# Altium schematic symbol library Mini-Circuits.SchLib: 11 symbols
Pins are listed as number, name and electrical type; pins without a type are passive.

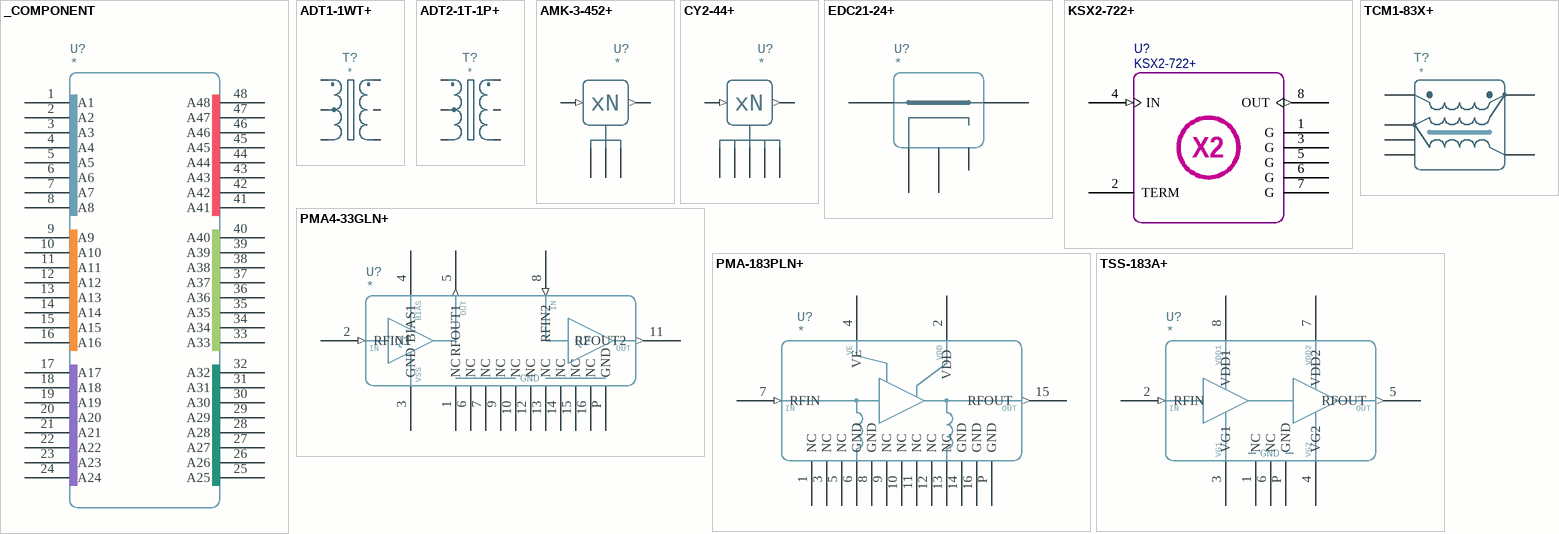
[diagram p0: symbols _COMPONENT to TSS-183A+]

## _COMPONENT
designator U?
pins: 1 A1, 2 A2, 3 A3, 4 A4, 5 A5, 6 A6, 7 A7, 8 A8, 9 A9, 10 A10, 11 A11, 12 A12, 13 A13, 14 A14, 15 A15, 16 A16, 17 A17, 18 A18, 19 A19, 20 A20, 21 A21, 22 A22, 23 A23, 24 A24, 25 A25, 26 A26, 27 A27, 28 A28, 29 A29, 30 A30, 31 A31, 32 A32, 33 A33, 34 A34, 35 A35, 36 A36, 37 A37, 38 A38, 39 A39, 40 A40, 41 A41, 42 A42, 43 A43, 44 A44, 45 A45, 46 A46, 47 A47, 48 A48

## ADT1-1WT+
designator T?
pins: 1, 2, 3, 4, 5, 6

## ADT2-1T-1P+
designator T?
pins: 1, 2, 3, 4, 5, 6

## AMK-3-452+
designator U?
pins: 1 GND, 3 OUT (out), 4 GND, 5 GND, 6 IN (in)
text: xN

## CY2-44+
designator U?
pins: 4 GND, 5 IN (in), 6 GND, 10 GND, 11 OUT (out), 12 GND, P GND
text: xN

## EDC21-24+
designator U?
pins: COUPLED, GND, IN, NC, OUT

## KSX2-722+
designator U?
x2 Frequency Multiplier; Vendor: Mini-Circuits; SerialNumber: 0; Designer: shyul; PCBMarker: DOUBLER; PinCountSMD: 8; Value: KSX2-722+; Version: 1.0; VersionDate: 09-30-2013; PartNumber: KSX2-722+; Publisher: Cowin; PinCountHole: 0
footprint HV1195
pins: 1 G, 2 TERM, 3 G, 4 IN (in), 5 G, 6 G, 7 G, 8 OUT (out)
text: X2

## PMA4-33GLN+
designator U?
pins: 1 NC, 2 RFIN1 (in), 3 GND, 4 BIAS1, 5 RFOUT1 (out), 6 NC, 7 NC, 8 RFIN2 (in), 9 NC, 10 NC, 11 RFOUT2 (out), 12 NC, 13 NC, 14 NC, 15 NC, 16 NC, P GND
text: BIAS; OUT; IN; Q1; Q2; VSS

## PMA-183PLN+
designator U?
pins: 1 NC, 2 VDD, 3 NC, 4 VE, 5 NC, 6 GND, 7 RFIN (in), 8 GND, 9 NC, 10 NC, 11 NC, 12 NC, 13 NC, 14 GND, 15 RFOUT (out), 16 GND, P GND
text: IN; OUT

## TCM1-83X+
designator T?
pins: 1, 2, 3, 4, 5, 6

## TSS-183A+
designator U?
pins: 1 NC, 2 RFIN (in), 3 VG1, 4 VG2, 5 RFOUT (out), 6 NC, 7 VDD2, 8 VDD1, P GND
text: IN; OUT